# Altium schematic symbol library e-Tech_Racing.SchLib: 2 symbols
Pins are listed as number, name and electrical type; pins without a type are passive.

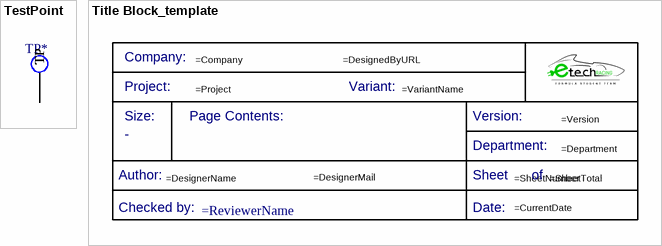
[diagram p0: symbols TestPoint to Title Block_template]

## TestPoint
designator TP*  (value not drawn)  (no BOM)
Test Point 1x1 mm; .Creator: GP; Category: TestPoint; .PCBcheck: GP; .SCHcheck: GP
footprint TestPoint
pins: 1 TP, 1 TP, 1 TP, 1 TP, 1 TP, 1 TP, 1 TP, 1 TP

## Title Block_template
designator *  (value not drawn)  (graphical)
Standard Title Block; .Creator: GP; Category: Title Block; .PCBcheck: GP; .SCHcheck: GP; Checked by:: =ReviewerName; Size: -
text: Company:; Project:; Variant:; Size:; Page Contents:; Version:; Department:; Author:; Sheet; of; Checked by:; Date: